# Altium footprint library PcbLib1.PcbLib: 1 footprints
Each footprint in its own frame and in the unit in brackets; x right, y up, seen from the top. Pads: shape width x height; smd on the part's side, far side on the other; paste and mask are expansions set on the pad; w line width, h text height; cw(c..) or ccw(c..) is an arc to the next point about the centre after c.
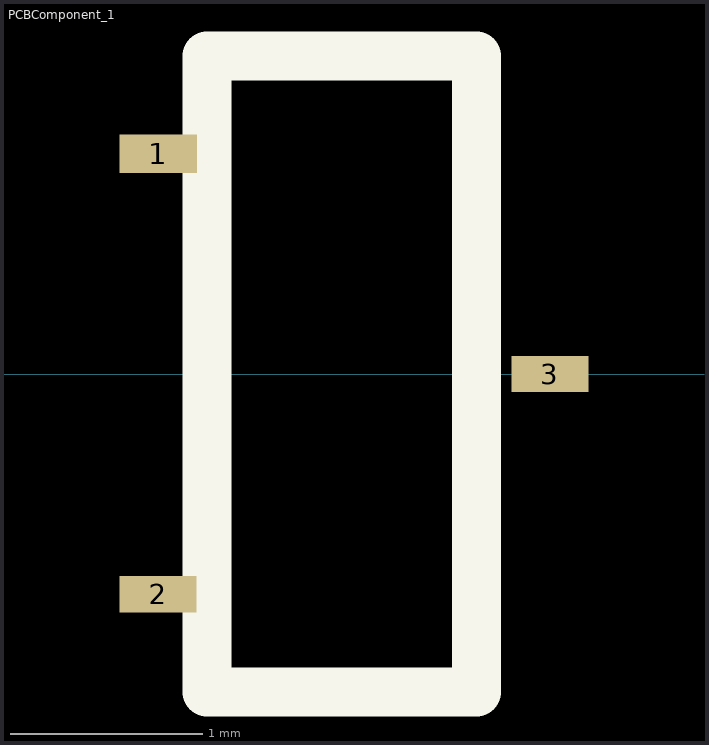
[diagram p0: the footprint, top view; thin cyan lines are the x and y axes]

## PCBComponent_1 [mil]
pads (3):
  rect 15.75x7.84 smd: 1(-120,45)
  rect 15.74x7.43 smd: 2(-120,-45)
  rect 15.74x7.4 smd: 3(-40,0)
Top Overlay:
  lines w10: -110,-65 -55,-65 -55,65 -110,65 -110,-65